# Altium schematic symbol library TS4148 RXG.SchLib: 1 symbol
Pins are listed as number, name and electrical type; pins without a type are passive.

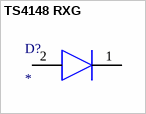
[diagram p0: symbol TS4148 RXG]

## TS4148 RXG
designator D?
footprint DIOC3215X08N (Chip Diode, 2-Leads, Body 3.20x1.50mm, IPC Medium Density)
pins: 1 C, 2 A